# Altium schematic symbol library SMD Resistors.SchLib: 19 symbols
Pins are listed as number, name and electrical type; pins without a type are passive.

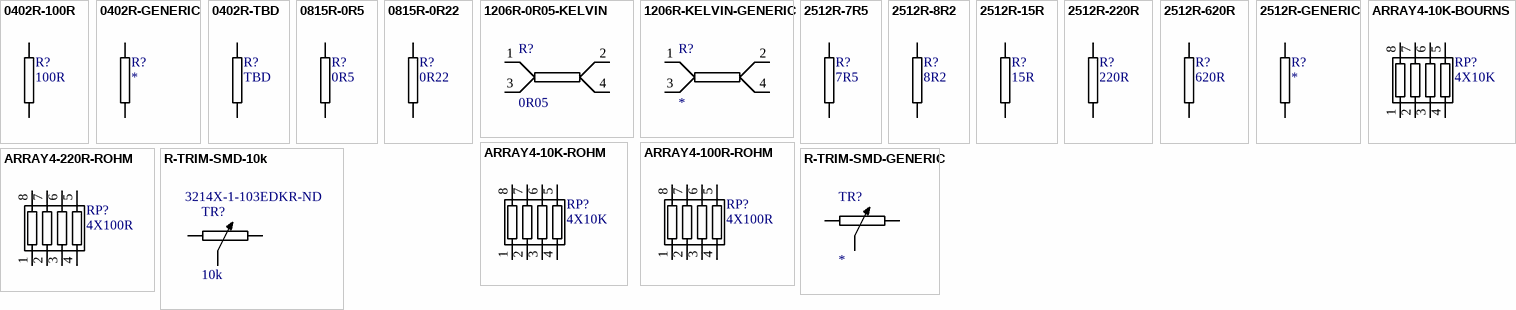
[diagram p0: symbols 0402R-100R to R-TRIM-SMD-GENERIC]

## 0402R-100R
designator R?, comment 100R
RESISTOR 0402 GENERIC
footprint 0402R-GENERIC
pins: 1, 2

## 0402R-GENERIC
designator R?
RESISTOR 0402 GENERIC
footprint 0402R-GENERIC
pins: 1, 2

## 0402R-TBD
designator R?, comment TBD
RESISTOR 0402 VALUE TO BE DETERMINED
footprint 0402R-TBD
pins: 1, 2

## 0815R-0R5
designator R?, comment 0R5
GENERIC RESISTOR 0815 1WATT
footprint 0815R-GENERIC (0815 RESISTOR 1 WATT)
pins: 1, 2

## 0815R-0R22
designator R?, comment 0R22
GENERIC RESISTOR 0815 1WATT
footprint 0815R-GENERIC (0815 RESISTOR 1 WATT)
pins: 1, 2

## 1206R-0R05-KELVIN
designator R?, comment 0R05
RESISTOR 1206 KELVIN; Manufacturer: Ohmite; Manufacturer Part Number: LVK12R050DER; Supplier 1: Digi-Key; Supplier Part Number 1: LVK12R050DERTR-ND
footprint 1206-KELVIN-GENERIC
pins: 1, 2, 3, 4

## 1206R-KELVIN-GENERIC
designator R?
RESISTOR 1206 KELVIN
footprint 1206-KELVIN-GENERIC
pins: 1, 2, 3, 4

## 2512R-7R5
designator R?, comment 7R5
GENERIC RESISTOR 2512; Manufacturer Part Number: CRCW25127R50JNEG; Manufacturer: Vishay/Dale; REEL: R20; Supplier 1: Digi-Key; Supplier Part Number 1: 541-7.5XDKR-ND
footprint 2512R-GENERIC
pins: 1, 2

## 2512R-8R2
designator R?, comment 8R2
GENERIC RESISTOR 2512; Manufacturer: Vishay/Dale; Manufacturer Part Number: CRCW25128R20JNEG; REEL: R10; Supplier 1: Digi-Key; Supplier Part Number 1: 541-8.2XCT-ND
footprint 2512R-GENERIC
pins: 1, 2

## 2512R-15R
designator R?, comment 15R
GENERIC RESISTOR 2512; Manufacturer: Vishay/Dale; Manufacturer Part Number: CRCW251215R0JNEG; Reel: R11; Supplier 1: Digi-Key; Supplier Part Number 1: 541-15XTR-ND
footprint 2512R-GENERIC
pins: 1, 2

## 2512R-220R
designator R?, comment 220R
GENERIC RESISTOR 2512; Manufacturer Part Number: CRCW2512220RJNEG; Manufacturer: Vishay/Dale; REEL: R19; Supplier 1: Digi-Key; Supplier Part Number 1: 541-220XTR-ND
footprint 2512R-GENERIC
pins: 1, 2

## 2512R-620R
designator R?, comment 620R
GENERIC RESISTOR 2512; Manufacturer: Vishay/Dale; Manufacturer Part Number: CRCW2512620RJNEG; Reel: R12; Supplier 1: Digi-Key; Supplier Part Number 1: 541-620XCT-ND
footprint 2512R-GENERIC
pins: 1, 2

## 2512R-GENERIC
designator R?
GENERIC RESISTOR 2512; Reel: *
footprint 2512R-GENERIC
pins: 1, 2

## ARRAY4-10K-BOURNS
designator RP?, comment 4X10K
GENERIC RESISTOR ARRAY 4X INDEPENDENT; Reel: RA4
footprint 1206-ARRAY-4-GENERIC
pins: 1, 2, 3, 4, 5, 6, 7, 8

## ARRAY4-10K-ROHM
designator RP?, comment 4X10K
GENERIC RESISTOR ARRAY 4X INDEPENDENT; Manufacturer: Rohm Semiconductor; Manufacturer Part Number: MNR14E0APJ103; Temperature Coefficient: ±200ppm/°C; Resistance In Ohms: 10.0K; Number of Resistors: 4; Tolerance: ±5%; Circuit Type: Isolated; Power Per Element: 62.5mW; Reel: RA2; Supplier 1: Digi-Key; Supplier: Digi-Key; Category: Resistors; RoHS: RoHS Compliant; Package / Case: 0603 x 4 Convex (1608 metric); Packaging: Tape & Reel (TR); Mounting Type: Surface Mount; Number of Pins: 8; Supplier Part Number 1: MNR14103RTR-ND; Supplier Part Number: MNR14103RTR-ND
footprint 1206-ARRAY-4-GENERIC
pins: 1, 2, 3, 4, 5, 6, 7, 8

## ARRAY4-100R-ROHM
designator RP?, comment 4X100R
GENERIC RESISTOR ARRAY 4X INDEPENDENT; Manufacturer Part Number: MNR14E0APJ101; Manufacturer: Rohm Semiconductor; Power Per Element: 62.5mW; Tolerance: ±5%; Number of Resistors: 4; Circuit Type: Isolated; Resistance In Ohms: 100; Temperature Coefficient: ±200ppm/°C; Reel: RA1; Supplier 1: Digi-Key; Category: Resistors; Number of Pins: 8; Mounting Type: Surface Mount; Supplier: Digi-Key; Package / Case: 0603 x 4 Convex (1608 metric); Packaging: Tape & Reel (TR); RoHS: RoHS Compliant; Supplier Part Number 1: MNR14101RTR-ND; Supplier Part Number: MNR14101RTR-ND
footprint 1206-ARRAY-4-GENERIC
pins: 1, 2, 3, 4, 5, 6, 7, 8

## ARRAY4-220R-ROHM
designator RP?, comment 4X100R
GENERIC RESISTOR ARRAY 4X INDEPENDENT; Manufacturer: Rohm Semiconductor; Manufacturer Part Number: MNR14E0APJ221; Number of Resistors: 4; Resistance In Ohms: 220; Circuit Type: Isolated; Power Per Element: 62.5mW; Tolerance: ±5%; Temperature Coefficient: ±200ppm/°C; Reel: RA3; Supplier 1: Digi-Key; Category: Resistors; Supplier: Digi-Key; Number of Pins: 8; Packaging: Tape & Reel (TR); RoHS: RoHS Compliant; Mounting Type: Surface Mount; Package / Case: 0603 x 4 Convex (1608 metric); Supplier Part Number 1: MNR14221RTR-ND; Supplier Part Number: MNR14221RTR-ND
footprint 1206-ARRAY-4-GENERIC
pins: 1, 2, 3, 4, 5, 6, 7, 8

## R-TRIM-SMD-10k
designator TR?, comment 10k  Supplier Part Number 1: 3214X-1-103EDKR-ND
GENERIC SMD TRIMMER; Manufacturer Part Number: 3224X-1-103E; Manufacturer: Bourns Inc.; Tolerance: ±10%; Power (Watts): 0.25W, 1/4W; Adjustment Type: Top Adjustment; Resistive Material: Cermet; Resistance In Ohms: 10.0K; Temperature Coefficient: ±100ppm/°C; Number of Turns: 11; Supplier: Digi-Key; Category: Potentiometers, Variable Resistors; Supplier Part Number: 3224X-1-103ETR-ND; Package / Case: Square - 0.190" L x 0.139" W x 0.200" H (4.80mm x 3.50mm x 5.10mm); Mounting Type: Surface Mount; RoHS: RoHS Compliant; Taper: -; Packaging: Tape & Reel (TR); Supplier 1: Digi-Key
footprint TRIM3224
pins: 1, 2, W

## R-TRIM-SMD-GENERIC
designator TR?
GENERIC SMD TRIMMER
footprint TRIM3224
pins: 1, 2, W